# EAGLE library part REF5050 (library RobThePyro)
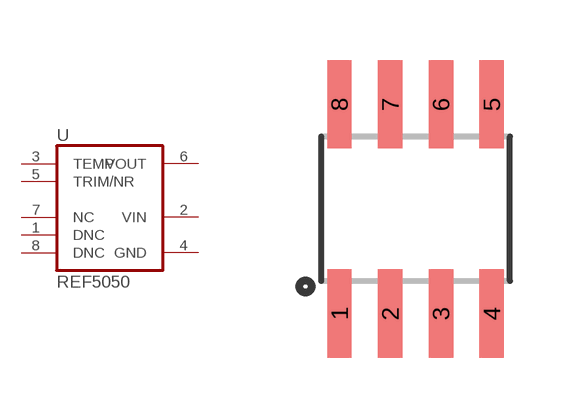
[diagram p6: symbol with the pads of SO08; footprint SO08]

Designator prefix -

## REF5050  [SO08]
1  DNC  nc
2  VIN  pwr
3  TEMP  pas
4  GND  pwr
5  TRIM/NR  pas
6  VOUT  in
7  NC  nc
8  DNC  nc

## Footprint SO08 (pad centres in mm)
Small Outline Package Fits JEDEC packages (narrow SOIC-8)
smd 0.61 x 2.21: 1 -1.905,-2.616; 2 -0.635,-2.616; 3 0.635,-2.616; 4 1.905,-2.616; 5 1.905,2.616; 6 0.635,2.616; 7 -0.635,2.616; 8 -1.905,2.616